# EAGLE library part SMA-SMD (library RFWBBoard)
SMA 50 Ohm Straight Jack Receptacle - Surface Mount www.johnsoncomponents.com Source: http://catalog.digikey.com .. 142-0711-201, 205, 202, 206.pdf
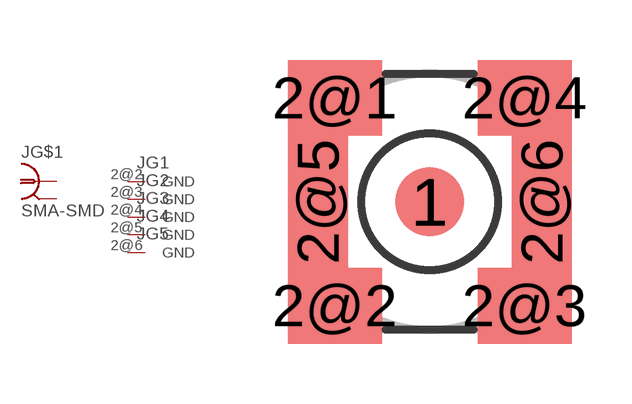
[diagram p8: symbol with the pads of SMA-SMD; footprint SMA-SMD]

Designator prefix J; gates G$1=BU-BNC G1=PIN_GND G2=PIN_GND G3=PIN_GND G4=PIN_GND G5=PIN_GND

## SMA-SMD (OC_FARNELL: unknown; OC_NEWARK: unknown)  [SMA-SMD]
1  G$1:1  pas
2@1  G$1:GND  pwr
2@2  G1:GND  pwr
2@3  G2:GND  pwr
2@4  G3:GND  pwr
2@5  G4:GND  pwr
2@6  G5:GND  pwr

## Footprint SMA-SMD (pad centres in mm)
SMA 50 Ohm Straight Jack Receptacle - Surface Mount www.johnsoncomponents.com Source: http://catalog.digikey.com .. 142-0711-201, 205, 202, 206.pdf
smd 1.73 x 1.73: 1 0,0
smd 2.35 x 1.9: 2@1 -2.375,2.6; 2@2 -2.375,-2.6; 2@3 2.375,-2.6; 2@4 2.375,2.6
smd 1.5 x 3.4: 2@5 -2.8,0; 2@6 2.8,0